# EAGLE library part VN5E025AJ (library power-ic)
Single channel high-side driver with analog current sense for automotive applications Features Max supply voltage VCC 41 V Operating voltage range VCC 4.5 to 28 V Max On-State resistance RON 25 mΩ Current limitation (typ) ILIMH 60 A Off state supply current IS 2 μA
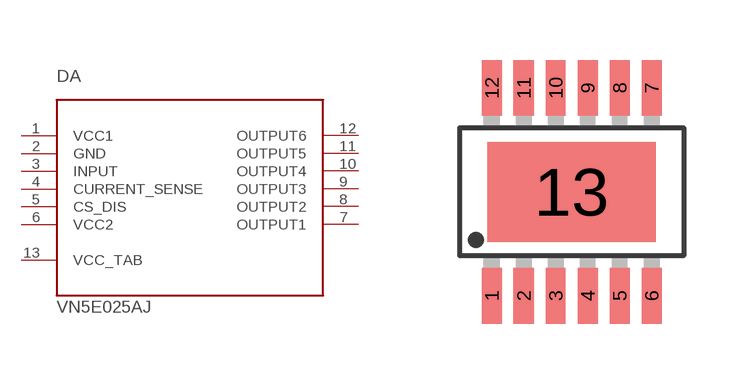
[diagram p0: symbol with the pads of POWERSSO-12; footprint POWERSSO-12]

Designator prefix DA

## VN5E025AJ-E  [POWERSSO-12]
1  VCC1  pwr
2  GND  pwr
3  INPUT  in
4  CURRENT_SENSE
5  CS_DIS  in
6  VCC2  pwr
7  OUTPUT1  pwr
8  OUTPUT2  pwr
9  OUTPUT3  pwr
10  OUTPUT4  pwr
11  OUTPUT5  pwr
12  OUTPUT6  pwr
13  VCC_TAB  pwr

## Footprint POWERSSO-12 (pad centres in mm)
PowerSSO-12 For various ST Microelectronics smart switch devices. WARNING! Footprint not tested!
smd 0.5 x 1.4: 1 -2,-2.6; 2 -1.2,-2.6; 3 -0.4,-2.6; 4 0.4,-2.6; 5 1.2,-2.6; 6 2,-2.6; 7 2,2.6; 8 1.2,2.6; 9 0.4,2.6; 10 -0.4,2.6; 11 -1.2,2.6; 12 -2,2.6
smd 4.2 x 2.5: 13 0,0